# Altium schematic symbol library GRM32ER71H475KA88L.SchLib: 1 symbol
Pins are listed as number, name and electrical type; pins without a type are passive.

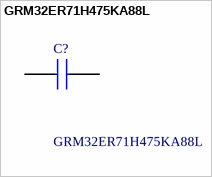
[diagram p0: symbol GRM32ER71H475KA88L]

## GRM32ER71H475KA88L
designator C?
1210 X7R ceramic cap,4.7uF 50V Murata 4.7uF Multilayer Ceramic Capacitor (MLCC) 50 V dc +/-10% X7R dielectric GRM max op. temp. +125C; Manufacturer_Name: Murata Electronics; Geometry.Height: 2.7mm; Manufacturer_Part_Number: GRM32ER71H475KA88L; Mouser Part Number: 81-GRM32R71H475KA88L; Mouser Price/Stock: https://www.mouser.co.uk/ProductDetail/Murata-Electronics/GRM32ER71H475KA88L?qs=IjyrXs0Hof%252B8EBN5DE4S3A%3D%3D; Arrow Part Number: GRM32ER71H475KA88L; Arrow Price/Stock: https://www.arrow.com/en/products/grm32er71h475ka88l/murata-manufacturing?region=nac; Datasheet Link: http://psearch.en.murata.com/capacitor/product/GRM32ER71E226KE15%23.pdf
footprint CAPC3225X270N
pins: 1, 2